# EAGLE library part C8051F380 (library Lysenko_Eagle_Lib)
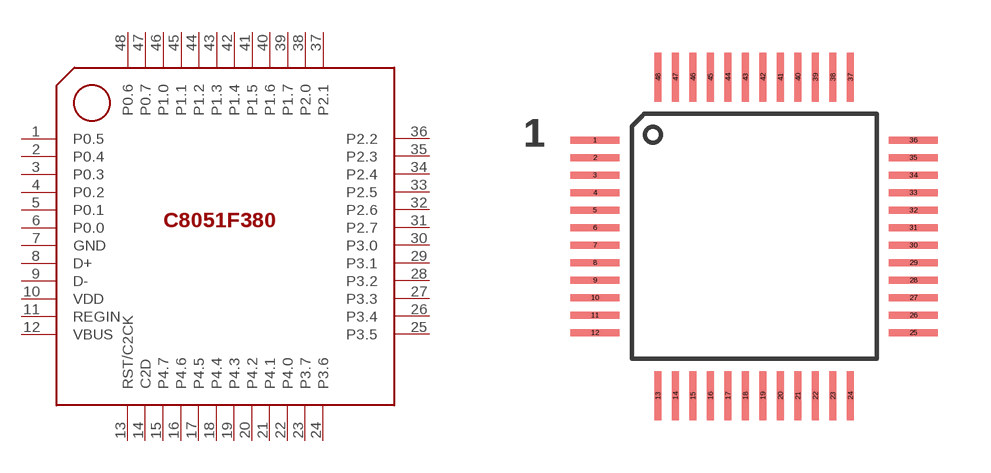
[diagram p12: symbol with the pads of TQFP-48; footprint TQFP-48]

Designator prefix -

## C8051F380  [TQFP-48]
1  P0.5
2  P0.4
3  P0.3
4  P0.2
5  P0.1
6  P0.0
7  GND
8  D+
9  D-
10  VDD
11  REGIN
12  VBUS
13  RST/C2CK
14  C2D
15  P4.7
16  P4.6
17  P4.5
18  P4.4
19  P4.3
20  P4.2
21  P4.1
22  P4.0
23  P3.7
24  P3.6
25  P3.5
26  P3.4
27  P3.3
28  P3.2
29  P3.1
30  P3.0
31  P2.7
32  P2.6
33  P2.5
34  P2.4
35  P2.3
36  P2.2
37  P2.1
38  P2.0
39  P1.7
40  P1.6
41  P1.5
42  P1.4
43  P1.3
44  P1.2
45  P1.1
46  P1.0
47  P0.7
48  P0.6

## Footprint TQFP-48 (pad centres in mm)
smd 1.4 x 0.2: 1 -1.05,6.25; 2 -1.05,5.75; 3 -1.05,5.25; 4 -1.05,4.75; 5 -1.05,4.25; 6 -1.05,3.75; 7 -1.05,3.25; 8 -1.05,2.75; 9 -1.05,2.25; 10 -1.05,1.75; 11 -1.05,1.25; 12 -1.05,0.75; 25 8.05,0.75; 26 8.05,1.25; 27 8.05,1.75; 28 8.05,2.25; 29 8.05,2.75; 30 8.05,3.25; 31 8.05,3.75; 32 8.05,4.25; 33 8.05,4.75; 34 8.05,5.25; 35 8.05,5.75; 36 8.05,6.25
smd 0.2 x 1.4: 13 0.75,-1.05; 14 1.25,-1.05; 15 1.75,-1.05; 16 2.25,-1.05; 17 2.75,-1.05; 18 3.25,-1.05; 19 3.75,-1.05; 20 4.25,-1.05; 21 4.75,-1.05; 22 5.25,-1.05; 23 5.75,-1.05; 24 6.25,-1.05; 37 6.25,8.05; 38 5.75,8.05; 39 5.25,8.05; 40 4.75,8.05; 41 4.25,8.05; 42 3.75,8.05; 43 3.25,8.05; 44 2.75,8.05; 45 2.25,8.05; 46 1.75,8.05; 47 1.25,8.05; 48 0.75,8.05